# Altium integrated library Analog_Devices_Power_Management_Linear_Regulators.IntLib: 441 symbols (part 14 of 23)
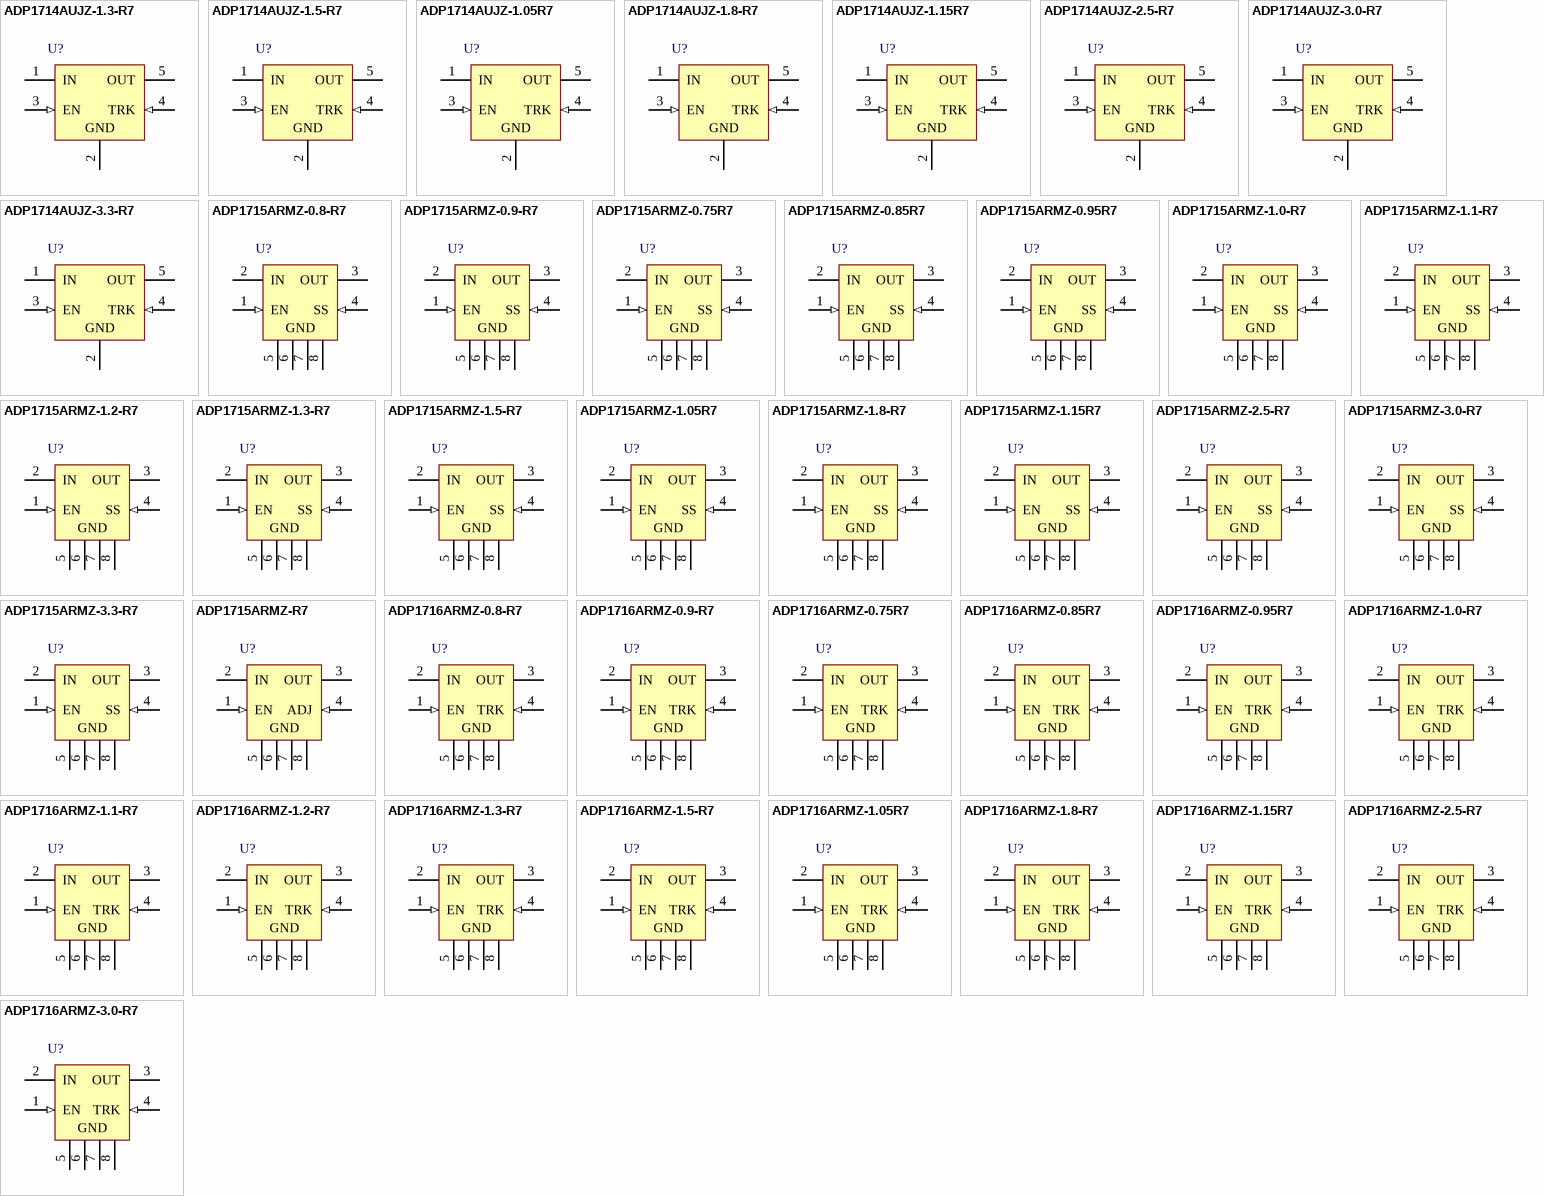
[diagram p24: symbols ADP1714AUJZ-1.3-R7 to ADP1716ARMZ-3.0-R7]

## ADP1716ARMZ-2.5-R7
designator U?
500 mA, Low Dropout, CMOS Linear Regulator, 2.5 to 5.5 V Vin, 2.5 V Vout, Industrial, 8-pin SOP (RM-8), Reel; Manufacturer: Analog Devices; PartNumber: ADP1716ARMZ-2.5-R7; Iout max: 500mA; Preset Vout Values (V): 2.5; Supply Current IGND @ Small Load: 65uA; Vin (max) (V): 5.5; DatasheetVersion: Rev. 0; PackageVersion: Aug-05; PackageReference: RM-8; PackageDescription: 8-Pin Mini Small Outline Package, Body 3 x 3 mm, Pitch 0.65 mm; Supplier 1: Digi-Key; Supplier Part Number 1: ADP1716ARMZ-2.5-R7TR-ND; Supplier 2: Digi-Key; Supplier Part Number 2: ADP1716ARMZ-2.5-R7CT-ND; Supplier 3: Digi-Key; Supplier Part Number 3: ADP1716ARMZ-2.5-R7DKR-ND; Supplier 4: Mouser; Supplier Part Number 4: 584-ADP1716ARMZ2.5R7; Packing: Reel; Vin (min) (V): 2.5; Mounting Technology: Surface Mount; Code_JEDEC: MO-187-AA; ComponentLink1Description: Manufacturer URL; ComponentLink1URL: http://www.analog.com/en/index.html; ComponentLink2Description: Datasheet; ComponentLink2URL: http://www.analog.com/static/imported-files/data_sheets/ADP1715_1716.pdf; ComponentLink3Description: Package Specification; ComponentLink3URL: http://www.analog.com/static/imported-files/packages/PKG_PDF/MSOP%28RM%29/RM_8.pdf; ComponentLink4Description: URL Link1; ComponentLink4URL: Product URL:http://www.analog.com/en/ADP1716/productSearch.html
footprint ADI-RM-8_N (SOP, 8-Leads, Body 3x3mm, Pitch 0.65mm, IPC Medium Density)
footprint ADI-RM-8_L (SOP, 8-Leads, Body 3x3mm, Pitch 0.65mm, IPC High Density)
footprint ADI-RM-8_M (SOP, 8-Leads, Body 3x3mm, Pitch 0.65mm, IPC Low Density)
pins: 1 EN (in) "Enable Input. Drive EN high to turn on the regulator; drive it low to turn off the regulator. For automatic startup, connect EN to IN.", 2 IN (power) "Regulator Input Supply. Bypass IN to GND with a 2.2 uF or greater capacitor.", 3 OUT (power) "Regulated Output Voltage. Bypass OUT to GND with a 2.2 uF or greater capacitor.", 4 TRK (in) "Track. The output will follow the voltage placed on the TRK pin. (See the Theory of Operation section for a more detailed description.)", 5 GND (power) "Ground.", 6 GND (power) "Ground.", 7 GND (power) "Ground.", 8 GND (power) "Ground."

## ADP1716ARMZ-3.0-R7
designator U?
500 mA, Low Dropout, CMOS Linear Regulator, 2.5 to 5.5 V Vin, 3 V Vout, Industrial, 8-pin SOP (RM-8), Reel; Manufacturer: Analog Devices; PartNumber: ADP1716ARMZ-3.0-R7; Iout max: 500mA; Preset Vout Values (V): 3.0; Supply Current IGND @ Small Load: 65uA; Vin (max) (V): 5.5; Vin (min) (V): 2.5; DatasheetVersion: Rev. 0; PackageVersion: Aug-05; PackageReference: RM-8; PackageDescription: 8-Pin Mini Small Outline Package, Body 3 x 3 mm, Pitch 0.65 mm; Supplier 1: Digi-Key; Supplier Part Number 1: ADP1716ARMZ-3.0-R7TR-ND; Supplier 2: Digi-Key; Supplier Part Number 2: ADP1716ARMZ-3.0-R7CT-ND; Supplier 3: Digi-Key; Supplier Part Number 3: ADP1716ARMZ-3.0-R7DKR-ND; Supplier 4: Mouser; Supplier Part Number 4: 584-ADP1716ARMZ3.0R7; Packing: Reel; Mounting Technology: Surface Mount; Code_JEDEC: MO-187-AA; ComponentLink1Description: Manufacturer URL; ComponentLink1URL: http://www.analog.com/en/index.html; ComponentLink2Description: Datasheet; ComponentLink2URL: http://www.analog.com/static/imported-files/data_sheets/ADP1715_1716.pdf; ComponentLink3Description: Package Specification; ComponentLink3URL: http://www.analog.com/static/imported-files/packages/PKG_PDF/MSOP%28RM%29/RM_8.pdf; ComponentLink4Description: URL Link1; ComponentLink4URL: Product URL:http://www.analog.com/en/ADP1716/productSearch.html
footprint ADI-RM-8_N (SOP, 8-Leads, Body 3x3mm, Pitch 0.65mm, IPC Medium Density)
footprint ADI-RM-8_L (SOP, 8-Leads, Body 3x3mm, Pitch 0.65mm, IPC High Density)
footprint ADI-RM-8_M (SOP, 8-Leads, Body 3x3mm, Pitch 0.65mm, IPC Low Density)
pins: 1 EN (in) "Enable Input. Drive EN high to turn on the regulator; drive it low to turn off the regulator. For automatic startup, connect EN to IN.", 2 IN (power) "Regulator Input Supply. Bypass IN to GND with a 2.2 uF or greater capacitor.", 3 OUT (power) "Regulated Output Voltage. Bypass OUT to GND with a 2.2 uF or greater capacitor.", 4 TRK (in) "Track. The output will follow the voltage placed on the TRK pin. (See the Theory of Operation section for a more detailed description.)", 5 GND (power) "Ground.", 6 GND (power) "Ground.", 7 GND (power) "Ground.", 8 GND (power) "Ground."

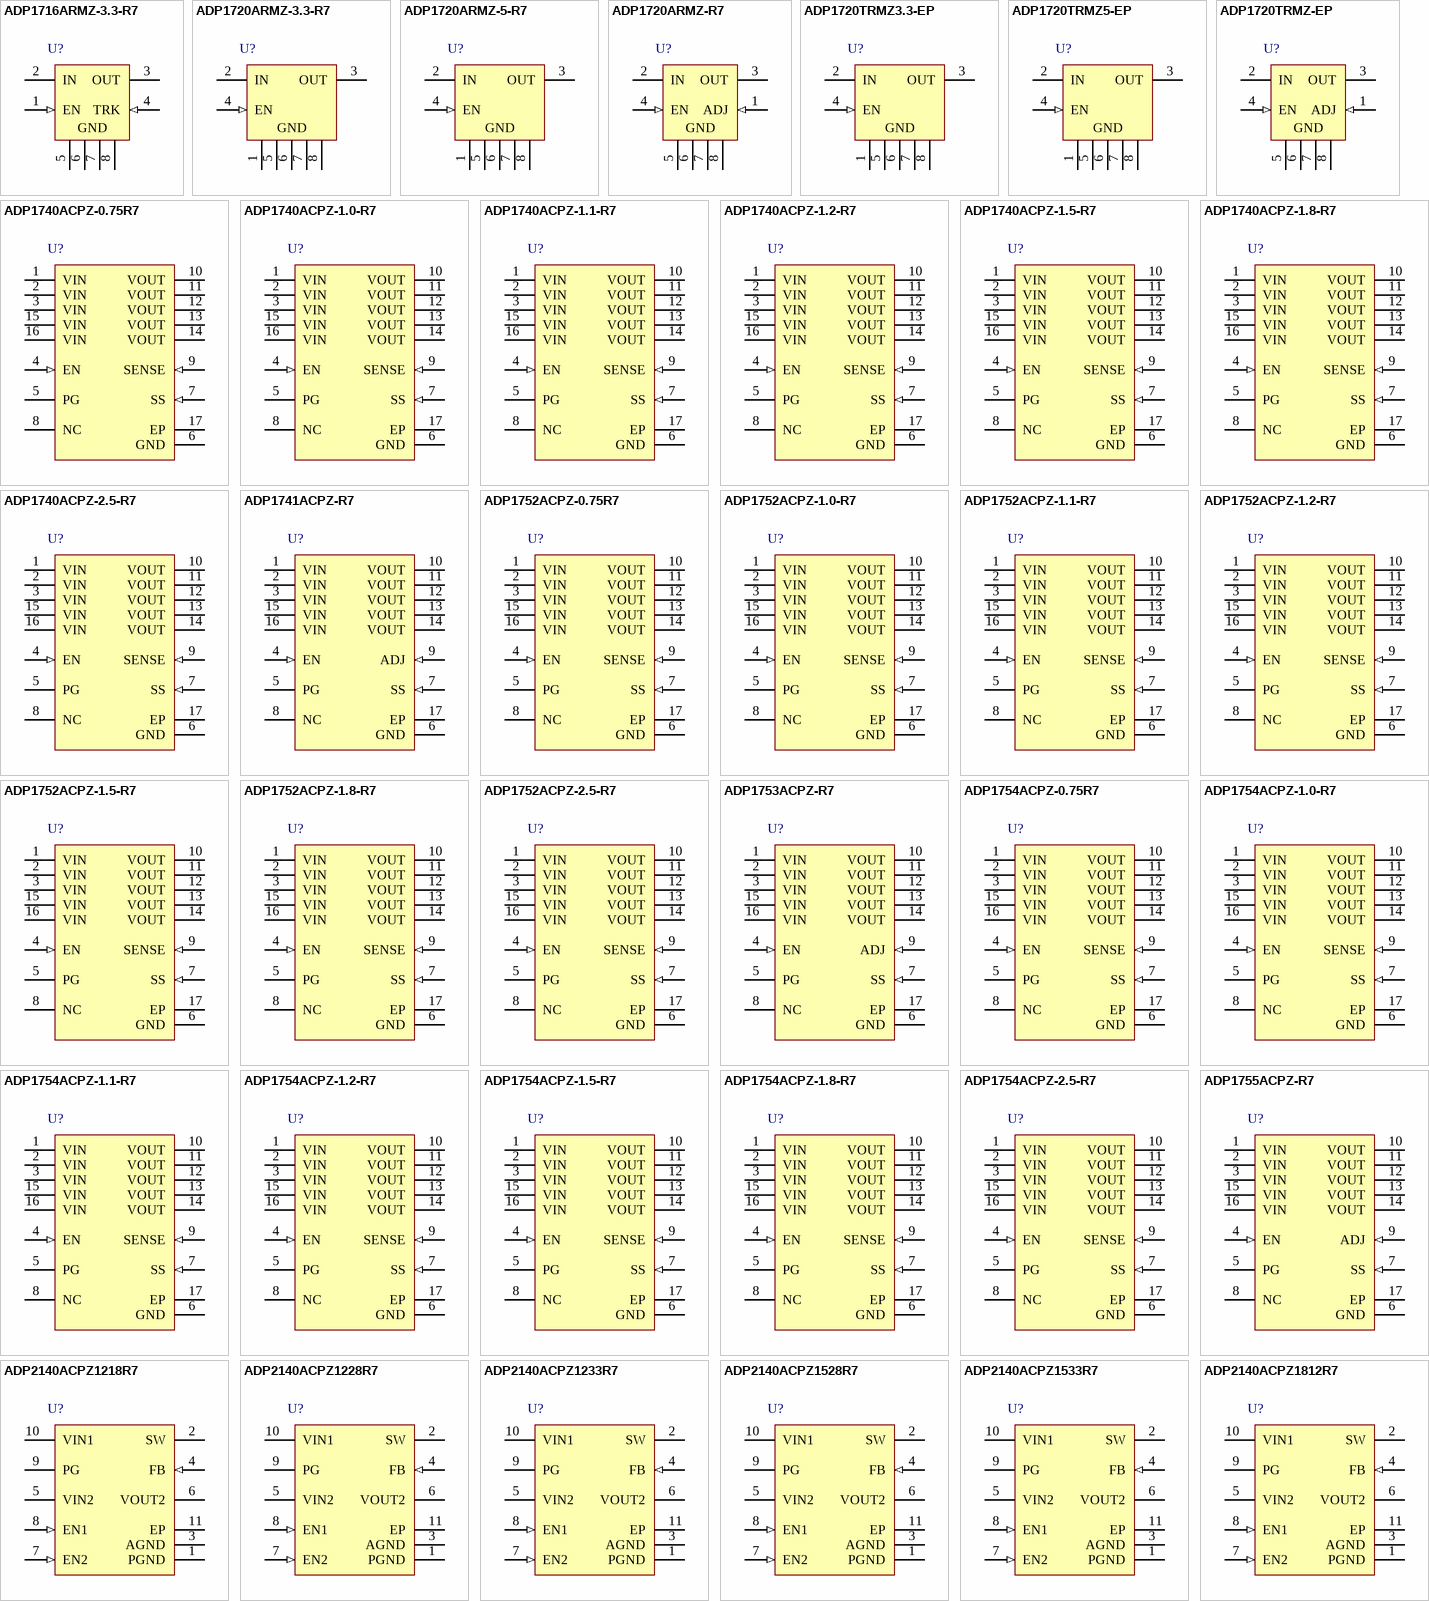
[diagram p7: symbols ADP1716ARMZ-3.3-R7 to ADP2140ACPZ1812R7]

## ADP1716ARMZ-3.3-R7
designator U?
500 mA, Low Dropout, CMOS Linear Regulator, 2.5 to 5.5 V Vin, 3.3 V Vout, Industrial, 8-pin SOP (RM-8), Reel; Manufacturer: Analog Devices; PartNumber: ADP1716ARMZ-3.3-R7; Iout max: 500mA; Preset Vout Values (V): 3.3; Supply Current IGND @ Small Load: 65uA; Vin (max) (V): 5.5; Vin (min) (V): 2.5; DatasheetVersion: Rev. 0; PackageVersion: Aug-05; PackageReference: RM-8; PackageDescription: 8-Pin Mini Small Outline Package, Body 3 x 3 mm, Pitch 0.65 mm; Supplier 1: Digi-Key; Supplier Part Number 1: ADP1716ARMZ-3.3-R7TR-ND; Supplier 2: Digi-Key; Supplier Part Number 2: ADP1716ARMZ-3.3-R7CT-ND; Supplier 3: Digi-Key; Supplier Part Number 3: ADP1716ARMZ-3.3-R7DKR-ND; Supplier 4: Mouser; Supplier Part Number 4: 584-ADP1716ARMZ3.3R7; Packing: Reel; Mounting Technology: Surface Mount; Code_JEDEC: MO-187-AA; ComponentLink1Description: Manufacturer URL; ComponentLink1URL: http://www.analog.com/en/index.html; ComponentLink2Description: Datasheet; ComponentLink2URL: http://www.analog.com/static/imported-files/data_sheets/ADP1715_1716.pdf; ComponentLink3Description: Package Specification; ComponentLink3URL: http://www.analog.com/static/imported-files/packages/PKG_PDF/MSOP%28RM%29/RM_8.pdf; ComponentLink4Description: URL Link1; ComponentLink4URL: Product URL:http://www.analog.com/en/ADP1716/productSearch.html
footprint ADI-RM-8_N (SOP, 8-Leads, Body 3x3mm, Pitch 0.65mm, IPC Medium Density)
footprint ADI-RM-8_L (SOP, 8-Leads, Body 3x3mm, Pitch 0.65mm, IPC High Density)
footprint ADI-RM-8_M (SOP, 8-Leads, Body 3x3mm, Pitch 0.65mm, IPC Low Density)
pins: 1 EN (in) "Enable Input. Drive EN high to turn on the regulator; drive it low to turn off the regulator. For automatic startup, connect EN to IN.", 2 IN (power) "Regulator Input Supply. Bypass IN to GND with a 2.2 uF or greater capacitor.", 3 OUT (power) "Regulated Output Voltage. Bypass OUT to GND with a 2.2 uF or greater capacitor.", 4 TRK (in) "Track. The output will follow the voltage placed on the TRK pin. (See the Theory of Operation section for a more detailed description.)", 5 GND (power) "Ground.", 6 GND (power) "Ground.", 7 GND (power) "Ground.", 8 GND (power) "Ground."

## ADP1720ARMZ-3.3-R7
designator U?
50 mA, High Voltage, Micropower Linear Regulator, 4 to 28 V Vin, 3.3 V Vout, Industrial, 8-pin SOP (RM-8), Reel; Manufacturer: Analog Devices; PartNumber: ADP1720ARMZ-3.3-R7; Iout max: 50mA; Preset Vout Values (V): 3.3; Supply Current IGND @ Small Load: 28uA; Vin (max) (V): 28; Vin (min) (V): 4; DatasheetVersion: Rev. A; PackageVersion: Aug-05; PackageReference: RM-8; PackageDescription: 8-Pin Mini Small Outline Package, Body 3 x 3 mm, Pitch 0.65 mm; Supplier 1: Digi-Key; Supplier Part Number 1: ADP1720ARMZ-3.3-R7TR-ND; Supplier 2: Digi-Key; Supplier Part Number 2: ADP1720ARMZ-3.3-R7CT-ND; Supplier 3: Digi-Key; Supplier Part Number 3: ADP1720ARMZ-3.3-R7DKR-ND; Supplier 4: Newark; Supplier Part Number 4: 41M1921; Supplier 5: Mouser; Supplier Part Number 5: 584-ADP1720ARMZ3.3R7; Packing: Reel; Mounting Technology: Surface Mount; Code_JEDEC: MO-187-AA; ComponentLink1Description: Manufacturer URL; ComponentLink1URL: http://www.analog.com/en/index.html; ComponentLink2Description: Datasheet; ComponentLink2URL: http://www.analog.com/static/imported-files/data_sheets/ADP1720.pdf; ComponentLink3Description: Package Specification; ComponentLink3URL: http://www.analog.com/static/imported-files/packages/PKG_PDF/MSOP%28RM%29/RM_8.pdf; ComponentLink4Description: URL Link1; ComponentLink4URL: Product URL:http://www.analog.com/en/ADP1720/productSearch.html
footprint ADI-RM-8_N (SOP, 8-Leads, Body 3x3mm, Pitch 0.65mm, IPC Medium Density)
footprint ADI-RM-8_L (SOP, 8-Leads, Body 3x3mm, Pitch 0.65mm, IPC High Density)
footprint ADI-RM-8_M (SOP, 8-Leads, Body 3x3mm, Pitch 0.65mm, IPC Low Density)
pins: 1 GND (power) "This pin is internally connected to ground.", 2 IN (power) "Regulator Input Supply. Bypass IN to GND with a 1 uF or greater capacitor.", 3 OUT (power) "Regulated Output Voltage. Bypass OUT to GND with a 1 uF or greater capacitor.", 4 EN (in) "Enable Input. Drive EN high to turn on the regulator; drive it low to turn off the regulator. For automatic startup, connect EN to IN.", 5 GND (power) "Ground.", 6 GND (power) "Ground.", 7 GND (power) "Ground.", 8 GND (power) "Ground."

## ADP1720ARMZ-5-R7
designator U?
50 mA, High Voltage, Micropower Linear Regulator, 4 to 28 V Vin, 5 V Vout, Industrial, 8-pin SOP (RM-8), Reel; Manufacturer: Analog Devices; PartNumber: ADP1720ARMZ-5-R7; Iout max: 50mA; Preset Vout Values (V): 5; Supply Current IGND @ Small Load: 28uA; Vin (max) (V): 28; Vin (min) (V): 4; DatasheetVersion: Rev. A; PackageVersion: Aug-05; PackageReference: RM-8; PackageDescription: 8-Pin Mini Small Outline Package, Body 3 x 3 mm, Pitch 0.65 mm; Supplier 1: Digi-Key; Supplier Part Number 1: ADP1720ARMZ-5-R7TR-ND; Supplier 2: Digi-Key; Supplier Part Number 2: ADP1720ARMZ-5-R7CT-ND; Supplier 3: Digi-Key; Supplier Part Number 3: ADP1720ARMZ-5-R7DKR-ND; Supplier 4: Farnell; Supplier Part Number 4: 1571196; Supplier 5: Newark; Supplier Part Number 5: 41M1922; Supplier 6: Mouser; Supplier Part Number 6: 584-ADP1720ARMZ-5-R7; Packing: Reel; Mounting Technology: Surface Mount; Code_JEDEC: MO-187-AA; ComponentLink1Description: Manufacturer URL; ComponentLink1URL: http://www.analog.com/en/index.html; ComponentLink2Description: Datasheet; ComponentLink2URL: http://www.analog.com/static/imported-files/data_sheets/ADP1720.pdf; ComponentLink3Description: Package Specification; ComponentLink3URL: http://www.analog.com/static/imported-files/packages/PKG_PDF/MSOP%28RM%29/RM_8.pdf; ComponentLink4Description: URL Link1; ComponentLink4URL: Product URL:http://www.analog.com/en/ADP1720/productSearch.html
footprint ADI-RM-8_N (SOP, 8-Leads, Body 3x3mm, Pitch 0.65mm, IPC Medium Density)
footprint ADI-RM-8_L (SOP, 8-Leads, Body 3x3mm, Pitch 0.65mm, IPC High Density)
footprint ADI-RM-8_M (SOP, 8-Leads, Body 3x3mm, Pitch 0.65mm, IPC Low Density)
pins: 1 GND (power) "This pin is internally connected to ground.", 2 IN (power) "Regulator Input Supply. Bypass IN to GND with a 1 uF or greater capacitor.", 3 OUT (power) "Regulated Output Voltage. Bypass OUT to GND with a 1 uF or greater capacitor.", 4 EN (in) "Enable Input. Drive EN high to turn on the regulator; drive it low to turn off the regulator. For automatic startup, connect EN to IN.", 5 GND (power) "Ground.", 6 GND (power) "Ground.", 7 GND (power) "Ground.", 8 GND (power) "Ground."

## ADP1720ARMZ-R7
designator U?
50 mA, High Voltage, Micropower Linear Regulator, 4 to 28 V Vin, 1.225 to 5 V Vout, Industrial, 8-pin SOP (RM-8), Reel; Manufacturer: Analog Devices; PartNumber: ADP1720ARMZ-R7; Iout max: 50mA; Supply Current IGND @ Small Load: 28uA; Vin (max) (V): 28; Vin (min) (V): 4; Vout Adjustable Range: 1.225V to 5V; DatasheetVersion: Rev. A; PackageVersion: Aug-05; PackageReference: RM-8; PackageDescription: 8-Pin Mini Small Outline Package, Body 3 x 3 mm, Pitch 0.65 mm; Supplier 1: Digi-Key; Supplier Part Number 1: ADP1720ARMZ-R7TR-ND; Supplier 2: Digi-Key; Supplier Part Number 2: ADP1720ARMZ-R7CT-ND; Supplier 3: Digi-Key; Supplier Part Number 3: ADP1720ARMZ-R7DKR-ND; Supplier 4: Farnell; Supplier Part Number 4: 2094213; Supplier 5: Newark; Supplier Part Number 5: 91T4776; Supplier 6: Newark; Supplier Part Number 6: 41M1920; Supplier 7: Mouser; Supplier Part Number 7: 584-ADP1720ARMZ-R7; Packing: Reel; Mounting Technology: Surface Mount; Code_JEDEC: MO-187-AA; ComponentLink1Description: Manufacturer URL; ComponentLink1URL: http://www.analog.com/en/index.html; ComponentLink2Description: Datasheet; ComponentLink2URL: http://www.analog.com/static/imported-files/data_sheets/ADP1720.pdf; ComponentLink3Description: Package Specification; ComponentLink3URL: http://www.analog.com/static/imported-files/packages/PKG_PDF/MSOP%28RM%29/RM_8.pdf; ComponentLink4Description: URL Link1; ComponentLink4URL: Product URL:http://www.analog.com/en/ADP1720/productSearch.html
footprint ADI-RM-8_N (SOP, 8-Leads, Body 3x3mm, Pitch 0.65mm, IPC Medium Density)
footprint ADI-RM-8_L (SOP, 8-Leads, Body 3x3mm, Pitch 0.65mm, IPC High Density)
footprint ADI-RM-8_M (SOP, 8-Leads, Body 3x3mm, Pitch 0.65mm, IPC Low Density)
pins: 1 ADJ (in) "Adjust. A resistor divider from OUT to ADJ sets the output voltage.", 2 IN (power) "Regulator Input Supply. Bypass IN to GND with a 1 uF or greater capacitor.", 3 OUT (power) "Regulated Output Voltage. Bypass OUT to GND with a 1 uF or greater capacitor.", 4 EN (in) "Enable Input. Drive EN high to turn on the regulator; drive it low to turn off the regulator. For automatic startup, connect EN to IN.", 5 GND (power) "Ground.", 6 GND (power) "Ground.", 7 GND (power) "Ground.", 8 GND (power) "Ground."

## ADP1720TRMZ3.3-EP
designator U?
50 mA, High Voltage, Micropower Linear Regulator, 4 to 28 V Vin, 3.3 V Vout, Military, 8-pin SOP (RM-8), Tube; Manufacturer: Analog Devices; PartNumber: ADP1720TRMZ3.3-EP; Iout max: 50mA; Preset Vout Values (V): 3.3; Supply Current IGND @ Small Load: 28uA; Vin (max) (V): 28; Vin (min) (V): 4; DatasheetVersion: Rev. A; PackageVersion: Aug-05; PackageReference: RM-8; PackageDescription: 8-Pin Mini Small Outline Package, Body 3 x 3 mm, Pitch 0.65 mm; Supplier 1: Digi-Key; Supplier Part Number 1: ADP1720TRMZ3.3-EP-ND; Supplier 2: Mouser; Supplier Part Number 2: 584-ADP1720TRMZ3.3EP; Packing: Tube; Mounting Technology: Surface Mount; Code_JEDEC: MO-187-AA; ComponentLink1Description: Manufacturer URL; ComponentLink1URL: http://www.analog.com/en/index.html; ComponentLink2Description: Datasheet; ComponentLink2URL: http://www.analog.com/static/imported-files/data_sheets/ADP1720-EP.pdf; ComponentLink3Description: Package Specification; ComponentLink3URL: http://www.analog.com/static/imported-files/packages/PKG_PDF/MSOP%28RM%29/RM_8.pdf; ComponentLink4Description: URL Link1; ComponentLink4URL: Product URL:http://www.analog.com/en/ADP1720/productSearch.html
footprint ADI-RM-8_N (SOP, 8-Leads, Body 3x3mm, Pitch 0.65mm, IPC Medium Density)
footprint ADI-RM-8_L (SOP, 8-Leads, Body 3x3mm, Pitch 0.65mm, IPC High Density)
footprint ADI-RM-8_M (SOP, 8-Leads, Body 3x3mm, Pitch 0.65mm, IPC Low Density)
pins: 1 GND (power) "This pin is internally connected to ground.", 2 IN (power) "Regulator Input Supply. Bypass IN to GND with a 1 uF or greater capacitor.", 3 OUT (power) "Regulated Output Voltage. Bypass OUT to GND with a 1 uF or greater capacitor.", 4 EN (in) "Enable Input. Drive EN high to turn on the regulator; drive it low to turn off the regulator. For automatic startup, connect EN to IN.", 5 GND (power) "Ground.", 6 GND (power) "Ground.", 7 GND (power) "Ground.", 8 GND (power) "Ground."

## ADP1720TRMZ5-EP
designator U?
50 mA, High Voltage, Micropower Linear Regulator, 4 to 28 V Vin, 5 V Vout, Military, 8-pin SOP (RM-8), Tube; Manufacturer: Analog Devices; PartNumber: ADP1720TRMZ5-EP; Iout max: 50mA; Preset Vout Values (V): 5; Supply Current IGND @ Small Load: 28uA; Vin (max) (V): 28; Vin (min) (V): 4; DatasheetVersion: Rev. A; PackageVersion: Aug-05; PackageReference: RM-8; PackageDescription: 8-Pin Mini Small Outline Package, Body 3 x 3 mm, Pitch 0.65 mm; Supplier 1: Digi-Key; Supplier Part Number 1: ADP1720TRMZ5-EP-ND; Supplier 2: Mouser; Supplier Part Number 2: 584-ADP1720TRMZ5-EP; Packing: Tube; Mounting Technology: Surface Mount; Code_JEDEC: MO-187-AA; ComponentLink1Description: Manufacturer URL; ComponentLink1URL: http://www.analog.com/en/index.html; ComponentLink2Description: Datasheet; ComponentLink2URL: http://www.analog.com/static/imported-files/data_sheets/ADP1720-EP.pdf; ComponentLink3Description: Package Specification; ComponentLink3URL: http://www.analog.com/static/imported-files/packages/PKG_PDF/MSOP%28RM%29/RM_8.pdf; ComponentLink4Description: URL Link1; ComponentLink4URL: Product URL:http://www.analog.com/en/ADP1720/productSearch.html
footprint ADI-RM-8_N (SOP, 8-Leads, Body 3x3mm, Pitch 0.65mm, IPC Medium Density)
footprint ADI-RM-8_L (SOP, 8-Leads, Body 3x3mm, Pitch 0.65mm, IPC High Density)
footprint ADI-RM-8_M (SOP, 8-Leads, Body 3x3mm, Pitch 0.65mm, IPC Low Density)
pins: 1 GND (power) "This pin is internally connected to ground.", 2 IN (power) "Regulator Input Supply. Bypass IN to GND with a 1 uF or greater capacitor.", 3 OUT (power) "Regulated Output Voltage. Bypass OUT to GND with a 1 uF or greater capacitor.", 4 EN (in) "Enable Input. Drive EN high to turn on the regulator; drive it low to turn off the regulator. For automatic startup, connect EN to IN.", 5 GND (power) "Ground.", 6 GND (power) "Ground.", 7 GND (power) "Ground.", 8 GND (power) "Ground."

## ADP1720TRMZ-EP
designator U?
50 mA, High Voltage, Micropower Linear Regulator, 4 to 28 V Vin, 1.225 to 5 V Vout, Military, 8-pin SOP (RM-8), Tube; Manufacturer: Analog Devices; PartNumber: ADP1720TRMZ-EP; Iout max: 50mA; Supply Current IGND @ Small Load: 28uA; Vin (max) (V): 28; Vin (min) (V): 4; Vout Adjustable Range: 1.225V to 5V; DatasheetVersion: Rev. A; PackageVersion: Aug-05; PackageReference: RM-8; PackageDescription: 8-Pin Mini Small Outline Package, Body 3 x 3 mm, Pitch 0.65 mm; Supplier 1: Digi-Key; Supplier Part Number 1: ADP1720TRMZ-EP-ND; Supplier 2: Mouser; Supplier Part Number 2: 584-ADP1720TRMZ-EP; Packing: Tube; Mounting Technology: Surface Mount; Code_JEDEC: MO-187-AA; ComponentLink1Description: Manufacturer URL; ComponentLink1URL: http://www.analog.com/en/index.html; ComponentLink2Description: Datasheet; ComponentLink2URL: http://www.analog.com/static/imported-files/data_sheets/ADP1720-EP.pdf; ComponentLink3Description: Package Specification; ComponentLink3URL: http://www.analog.com/static/imported-files/packages/PKG_PDF/MSOP%28RM%29/RM_8.pdf; ComponentLink4Description: URL Link1; ComponentLink4URL: Product URL:http://www.analog.com/en/ADP1720/productSearch.html
footprint ADI-RM-8_N (SOP, 8-Leads, Body 3x3mm, Pitch 0.65mm, IPC Medium Density)
footprint ADI-RM-8_L (SOP, 8-Leads, Body 3x3mm, Pitch 0.65mm, IPC High Density)
footprint ADI-RM-8_M (SOP, 8-Leads, Body 3x3mm, Pitch 0.65mm, IPC Low Density)
pins: 1 ADJ (in) "Adjust. A resistor divider from OUT to ADJ sets the output voltage.", 2 IN (power) "Regulator Input Supply. Bypass IN to GND with a 1 uF or greater capacitor.", 3 OUT (power) "Regulated Output Voltage. Bypass OUT to GND with a 1 uF or greater capacitor.", 4 EN (in) "Enable Input. Drive EN high to turn on the regulator; drive it low to turn off the regulator. For automatic startup, connect EN to IN.", 5 GND (power) "Ground.", 6 GND (power) "Ground.", 7 GND (power) "Ground.", 8 GND (power) "Ground."

## ADP1740ACPZ-0.75R7
designator U?
2 A, Low VIN, Low Dropout Linear Regulator, 1.6 to 3.6 V Vin, 0.75 V Vout, Industrial, 16-pin QFN (CP-16-3), Reel; Manufacturer: Analog Devices; PartNumber: ADP1740ACPZ-0.75R7; Iout max: 2A; Preset Vout Values (V): 0.75; Supply Current IGND @ Small Load: 90uA; Vin (max) (V): 3.6; Vin (min) (V): 1.6; DatasheetVersion: Rev. D; PackageReference: CP-16-3; PackageDescription: 16-Pin Lead Frame Chip Scale Package, Body 3 x 3 mm, Pitch 0.5 mm; Supplier 1: Digi-Key; Supplier Part Number 1: ADP1740ACPZ-0.75R7TR-ND; Supplier 2: Digi-Key; Supplier Part Number 2: ADP1740ACPZ-0.75R7CT-ND; Supplier 3: Digi-Key; Supplier Part Number 3: ADP1740ACPZ-0.75R7DKR-ND; Supplier 4: Mouser; Supplier Part Number 4: 584-AP1740ACPZ0.75R7; Packing: Reel; Mounting Technology: Surface Mount; Code_JEDEC: MO-220-VEED-2; ComponentLink1Description: Manufacturer URL; ComponentLink1URL: http://www.analog.com/en/index.html; ComponentLink2Description: Datasheet; ComponentLink2URL: http://www.analog.com/static/imported-files/data_sheets/ADP1740_1741.pdf; ComponentLink3Description: Package Specification; ComponentLink3URL: http://www.analog.com/static/imported-files/packages/PKG_PDF/LFCSP(CP)/CP_16_3.pdf; ComponentLink4Description: URL Link1; ComponentLink4URL: Product URL:http://www.analog.com/en/ADP1740/productSearch.html
footprint ADI-CP-16-3_N (QFN, 16-Leads, Body 3x3mm, Pitch 0.5mm, Thermal Pad 1.5x1.5mm, IPC Medium Density)
footprint ADI-CP-16-3_L (QFN, 16-Leads, Body 3x3mm, Pitch 0.5mm, Thermal Pad 1.5x1.5mm, IPC High Density)
footprint ADI-CP-16-3_M (QFN, 16-Leads, Body 3x3mm, Pitch 0.5mm, Thermal Pad 1.5x1.5mm, IPC Low Density)
pins: 1 VIN (power) "Regulator Input Supply. Bypass VIN to GND with a 4.7 uF or greater capacitor. Note that all five VIN pins must be connected to the source supply.", 2 VIN (power) "Regulator Input Supply. Bypass VIN to GND with a 4.7 uF or greater capacitor. Note that all five VIN pins must be connected to the source supply.", 3 VIN (power) "Regulator Input Supply. Bypass VIN to GND with a 4.7 uF or greater capacitor. Note that all five VIN pins must be connected to the source supply.", 4 EN (in) "Enable Input. Drive EN high to turn on the regulator; drive it low to turn off the regulator. For automatic startup, connect EN to VIN", 5 PG (oc) "Power-Good Output. This open-drain output requires an external pull-up resistor to VIN. If the part is in shutdown mode, current-limit mode, or thermal shutdown, or if it falls below 90% of the nominal output voltage, the PG (See Datasheet)", 6 GND (power) "Ground.", 7 SS (in) "Soft Start Pin. A capacitor connected to this pin determines the soft start time.", 8 NC "Not Connected. No internal connection.", 9 SENSE (in) "Sense Input. This pin measures the actual output voltage at the load and feeds it to the error amplifier. Connect the SENSE pin as close to the load as possible to minimize the effect of IR drop between the regulator output (See Datasheet)", 10 VOUT (power) "Regulated Output Voltage. Bypass VOUT to GND with a 4.7 uF or greater capacitor. Note that all five VOUT pins must be connected to the load", 11 VOUT (power) "Regulated Output Voltage. Bypass VOUT to GND with a 4.7 uF or greater capacitor. Note that all five VOUT pins must be connected to the load", 12 VOUT (power) "Regulated Output Voltage. Bypass VOUT to GND with a 4.7 uF or greater capacitor. Note that all five VOUT pins must be connected to the load", 13 VOUT (power) "Regulated Output Voltage. Bypass VOUT to GND with a 4.7 uF or greater capacitor. Note that all five VOUT pins must be connected to the load", 14 VOUT (power) "Regulated Output Voltage. Bypass VOUT to GND with a 4.7 uF or greater capacitor. Note that all five VOUT pins must be connected to the load", 15 VIN (power) "Regulator Input Supply. Bypass VIN to GND with a 4.7 uF or greater capacitor. Note that all five VIN pins must be connected to the source supply.", 16 VIN (power) "Regulator Input Supply. Bypass VIN to GND with a 4.7 uF or greater capacitor. Note that all five VIN pins must be connected to the source supply.", 17 EP (power) "The exposed pad on the bottom of the LFCSP enhances thermal performance and is electrically connected to GND inside the package. It is recommended that the exposed pad be connected to the ground plane on the board."

## ADP1740ACPZ-1.0-R7
designator U?
2 A, Low VIN, Low Dropout Linear Regulator, 1.6 to 3.6 V Vin, 1 V Vout, Industrial, 16-pin QFN (CP-16-3), Reel; Manufacturer: Analog Devices; PartNumber: ADP1740ACPZ-1.0-R7; Iout max: 2A; Preset Vout Values (V): 1.0; Supply Current IGND @ Small Load: 90uA; Vin (max) (V): 3.6; Vin (min) (V): 1.6; DatasheetVersion: Rev. D; PackageReference: CP-16-3; PackageDescription: 16-Pin Lead Frame Chip Scale Package, Body 3 x 3 mm, Pitch 0.5 mm; Supplier 1: Digi-Key; Supplier Part Number 1: ADP1740ACPZ-1.0-R7TR-ND; Supplier 2: Digi-Key; Supplier Part Number 2: ADP1740ACPZ-1.0-R7CT-ND; Supplier 3: Digi-Key; Supplier Part Number 3: ADP1740ACPZ-1.0-R7DKR-ND; Supplier 4: Newark; Supplier Part Number 4: 34P3044; Supplier 5: Mouser; Supplier Part Number 5: 584-ADP1740ACPZ1.0R7; Packing: Reel; Mounting Technology: Surface Mount; Code_JEDEC: MO-220-VEED-2; ComponentLink1Description: Manufacturer URL; ComponentLink1URL: http://www.analog.com/en/index.html; ComponentLink2Description: Datasheet; ComponentLink2URL: http://www.analog.com/static/imported-files/data_sheets/ADP1740_1741.pdf; ComponentLink3Description: Package Specification; ComponentLink3URL: http://www.analog.com/static/imported-files/packages/PKG_PDF/LFCSP(CP)/CP_16_3.pdf; ComponentLink4Description: URL Link1; ComponentLink4URL: Product URL:http://www.analog.com/en/ADP1740/productSearch.html
footprint ADI-CP-16-3_N (QFN, 16-Leads, Body 3x3mm, Pitch 0.5mm, Thermal Pad 1.5x1.5mm, IPC Medium Density)
footprint ADI-CP-16-3_L (QFN, 16-Leads, Body 3x3mm, Pitch 0.5mm, Thermal Pad 1.5x1.5mm, IPC High Density)
footprint ADI-CP-16-3_M (QFN, 16-Leads, Body 3x3mm, Pitch 0.5mm, Thermal Pad 1.5x1.5mm, IPC Low Density)
pins: 1 VIN (power) "Regulator Input Supply. Bypass VIN to GND with a 4.7 uF or greater capacitor. Note that all five VIN pins must be connected to the source supply.", 2 VIN (power) "Regulator Input Supply. Bypass VIN to GND with a 4.7 uF or greater capacitor. Note that all five VIN pins must be connected to the source supply.", 3 VIN (power) "Regulator Input Supply. Bypass VIN to GND with a 4.7 uF or greater capacitor. Note that all five VIN pins must be connected to the source supply.", 4 EN (in) "Enable Input. Drive EN high to turn on the regulator; drive it low to turn off the regulator. For automatic startup, connect EN to VIN", 5 PG (oc) "Power-Good Output. This open-drain output requires an external pull-up resistor to VIN. If the part is in shutdown mode, current-limit mode, or thermal shutdown, or if it falls below 90% of the nominal output voltage, the PG (See Datasheet)", 6 GND (power) "Ground.", 7 SS (in) "Soft Start Pin. A capacitor connected to this pin determines the soft start time.", 8 NC "Not Connected. No internal connection.", 9 SENSE (in) "Sense Input. This pin measures the actual output voltage at the load and feeds it to the error amplifier. Connect the SENSE pin as close to the load as possible to minimize the effect of IR drop between the regulator output (See Datasheet)", 10 VOUT (power) "Regulated Output Voltage. Bypass VOUT to GND with a 4.7 uF or greater capacitor. Note that all five VOUT pins must be connected to the load", 11 VOUT (power) "Regulated Output Voltage. Bypass VOUT to GND with a 4.7 uF or greater capacitor. Note that all five VOUT pins must be connected to the load", 12 VOUT (power) "Regulated Output Voltage. Bypass VOUT to GND with a 4.7 uF or greater capacitor. Note that all five VOUT pins must be connected to the load", 13 VOUT (power) "Regulated Output Voltage. Bypass VOUT to GND with a 4.7 uF or greater capacitor. Note that all five VOUT pins must be connected to the load", 14 VOUT (power) "Regulated Output Voltage. Bypass VOUT to GND with a 4.7 uF or greater capacitor. Note that all five VOUT pins must be connected to the load", 15 VIN (power) "Regulator Input Supply. Bypass VIN to GND with a 4.7 uF or greater capacitor. Note that all five VIN pins must be connected to the source supply.", 16 VIN (power) "Regulator Input Supply. Bypass VIN to GND with a 4.7 uF or greater capacitor. Note that all five VIN pins must be connected to the source supply.", 17 EP (power) "The exposed pad on the bottom of the LFCSP enhances thermal performance and is electrically connected to GND inside the package. It is recommended that the exposed pad be connected to the ground plane on the board."

## ADP1740ACPZ-1.1-R7
designator U?
2 A, Low VIN, Low Dropout Linear Regulator, 1.6 to 3.6 V Vin, 1.1 V Vout, Industrial, 16-pin QFN (CP-16-3), Reel; Manufacturer: Analog Devices; PartNumber: ADP1740ACPZ-1.1-R7; Iout max: 2A; Preset Vout Values (V): 1.1; Supply Current IGND @ Small Load: 90uA; Vin (max) (V): 3.6; Vin (min) (V): 1.6; DatasheetVersion: Rev. D; PackageReference: CP-16-3; PackageDescription: 16-Pin Lead Frame Chip Scale Package, Body 3 x 3 mm, Pitch 0.5 mm; Supplier 1: Digi-Key; Supplier Part Number 1: ADP1740ACPZ-1.1-R7TR-ND; Supplier 2: Digi-Key; Supplier Part Number 2: ADP1740ACPZ-1.1-R7CT-ND; Supplier 3: Digi-Key; Supplier Part Number 3: ADP1740ACPZ-1.1-R7DKR-ND; Supplier 4: Mouser; Supplier Part Number 4: 584-ADP1740ACPZ1.1R7; Packing: Reel; Mounting Technology: Surface Mount; Code_JEDEC: MO-220-VEED-2; ComponentLink1Description: Manufacturer URL; ComponentLink1URL: http://www.analog.com/en/index.html; ComponentLink2Description: Datasheet; ComponentLink2URL: http://www.analog.com/static/imported-files/data_sheets/ADP1740_1741.pdf; ComponentLink3Description: Package Specification; ComponentLink3URL: http://www.analog.com/static/imported-files/packages/PKG_PDF/LFCSP(CP)/CP_16_3.pdf; ComponentLink4Description: URL Link1; ComponentLink4URL: Product URL:http://www.analog.com/en/ADP1740/productSearch.html
footprint ADI-CP-16-3_N (QFN, 16-Leads, Body 3x3mm, Pitch 0.5mm, Thermal Pad 1.5x1.5mm, IPC Medium Density)
footprint ADI-CP-16-3_L (QFN, 16-Leads, Body 3x3mm, Pitch 0.5mm, Thermal Pad 1.5x1.5mm, IPC High Density)
footprint ADI-CP-16-3_M (QFN, 16-Leads, Body 3x3mm, Pitch 0.5mm, Thermal Pad 1.5x1.5mm, IPC Low Density)
pins: 1 VIN (power) "Regulator Input Supply. Bypass VIN to GND with a 4.7 uF or greater capacitor. Note that all five VIN pins must be connected to the source supply.", 2 VIN (power) "Regulator Input Supply. Bypass VIN to GND with a 4.7 uF or greater capacitor. Note that all five VIN pins must be connected to the source supply.", 3 VIN (power) "Regulator Input Supply. Bypass VIN to GND with a 4.7 uF or greater capacitor. Note that all five VIN pins must be connected to the source supply.", 4 EN (in) "Enable Input. Drive EN high to turn on the regulator; drive it low to turn off the regulator. For automatic startup, connect EN to VIN", 5 PG (oc) "Power-Good Output. This open-drain output requires an external pull-up resistor to VIN. If the part is in shutdown mode, current-limit mode, or thermal shutdown, or if it falls below 90% of the nominal output voltage, the PG (See Datasheet)", 6 GND (power) "Ground.", 7 SS (in) "Soft Start Pin. A capacitor connected to this pin determines the soft start time.", 8 NC "Not Connected. No internal connection.", 9 SENSE (in) "Sense Input. This pin measures the actual output voltage at the load and feeds it to the error amplifier. Connect the SENSE pin as close to the load as possible to minimize the effect of IR drop between the regulator output (See Datasheet)", 10 VOUT (power) "Regulated Output Voltage. Bypass VOUT to GND with a 4.7 uF or greater capacitor. Note that all five VOUT pins must be connected to the load", 11 VOUT (power) "Regulated Output Voltage. Bypass VOUT to GND with a 4.7 uF or greater capacitor. Note that all five VOUT pins must be connected to the load", 12 VOUT (power) "Regulated Output Voltage. Bypass VOUT to GND with a 4.7 uF or greater capacitor. Note that all five VOUT pins must be connected to the load", 13 VOUT (power) "Regulated Output Voltage. Bypass VOUT to GND with a 4.7 uF or greater capacitor. Note that all five VOUT pins must be connected to the load", 14 VOUT (power) "Regulated Output Voltage. Bypass VOUT to GND with a 4.7 uF or greater capacitor. Note that all five VOUT pins must be connected to the load", 15 VIN (power) "Regulator Input Supply. Bypass VIN to GND with a 4.7 uF or greater capacitor. Note that all five VIN pins must be connected to the source supply.", 16 VIN (power) "Regulator Input Supply. Bypass VIN to GND with a 4.7 uF or greater capacitor. Note that all five VIN pins must be connected to the source supply.", 17 EP (power) "The exposed pad on the bottom of the LFCSP enhances thermal performance and is electrically connected to GND inside the package. It is recommended that the exposed pad be connected to the ground plane on the board."

## ADP1740ACPZ-1.2-R7
designator U?
2 A, Low VIN, Low Dropout Linear Regulator, 1.6 to 3.6 V Vin, 1.2 V Vout, Industrial, 16-pin QFN (CP-16-3), Reel; Manufacturer: Analog Devices; PartNumber: ADP1740ACPZ-1.2-R7; Iout max: 2A; Preset Vout Values (V): 1.2; Supply Current IGND @ Small Load: 90uA; Vin (max) (V): 3.6; Vin (min) (V): 1.6; DatasheetVersion: Rev. D; PackageReference: CP-16-3; PackageDescription: 16-Pin Lead Frame Chip Scale Package, Body 3 x 3 mm, Pitch 0.5 mm; Supplier 1: Digi-Key; Supplier Part Number 1: ADP1740ACPZ-1.2-R7TR-ND; Supplier 2: Digi-Key; Supplier Part Number 2: ADP1740ACPZ-1.2-R7CT-ND; Supplier 3: Digi-Key; Supplier Part Number 3: ADP1740ACPZ-1.2-R7DKR-ND; Supplier 4: Farnell; Supplier Part Number 4: 2312886; Supplier 5: Newark; Supplier Part Number 5: 34P3046; Supplier 6: Newark; Supplier Part Number 6: 67W2699; Supplier 7: Mouser; Supplier Part Number 7: 584-ADP1740ACPZ1.2R7; Packing: Reel; Mounting Technology: Surface Mount; Code_JEDEC: MO-220-VEED-2; ComponentLink1Description: Manufacturer URL; ComponentLink1URL: http://www.analog.com/en/index.html; ComponentLink2Description: Datasheet; ComponentLink2URL: http://www.analog.com/static/imported-files/data_sheets/ADP1740_1741.pdf; ComponentLink3Description: Package Specification; ComponentLink3URL: http://www.analog.com/static/imported-files/packages/PKG_PDF/LFCSP(CP)/CP_16_3.pdf; ComponentLink4Description: URL Link1; ComponentLink4URL: Product URL:http://www.analog.com/en/ADP1740/productSearch.html
footprint ADI-CP-16-3_N (QFN, 16-Leads, Body 3x3mm, Pitch 0.5mm, Thermal Pad 1.5x1.5mm, IPC Medium Density)
footprint ADI-CP-16-3_L (QFN, 16-Leads, Body 3x3mm, Pitch 0.5mm, Thermal Pad 1.5x1.5mm, IPC High Density)
footprint ADI-CP-16-3_M (QFN, 16-Leads, Body 3x3mm, Pitch 0.5mm, Thermal Pad 1.5x1.5mm, IPC Low Density)
pins: 1 VIN (power) "Regulator Input Supply. Bypass VIN to GND with a 4.7 uF or greater capacitor. Note that all five VIN pins must be connected to the source supply.", 2 VIN (power) "Regulator Input Supply. Bypass VIN to GND with a 4.7 uF or greater capacitor. Note that all five VIN pins must be connected to the source supply.", 3 VIN (power) "Regulator Input Supply. Bypass VIN to GND with a 4.7 uF or greater capacitor. Note that all five VIN pins must be connected to the source supply.", 4 EN (in) "Enable Input. Drive EN high to turn on the regulator; drive it low to turn off the regulator. For automatic startup, connect EN to VIN", 5 PG (oc) "Power-Good Output. This open-drain output requires an external pull-up resistor to VIN. If the part is in shutdown mode, current-limit mode, or thermal shutdown, or if it falls below 90% of the nominal output voltage, the PG (See Datasheet)", 6 GND (power) "Ground.", 7 SS (in) "Soft Start Pin. A capacitor connected to this pin determines the soft start time.", 8 NC "Not Connected. No internal connection.", 9 SENSE (in) "Sense Input. This pin measures the actual output voltage at the load and feeds it to the error amplifier. Connect the SENSE pin as close to the load as possible to minimize the effect of IR drop between the regulator output (See Datasheet)", 10 VOUT (power) "Regulated Output Voltage. Bypass VOUT to GND with a 4.7 uF or greater capacitor. Note that all five VOUT pins must be connected to the load", 11 VOUT (power) "Regulated Output Voltage. Bypass VOUT to GND with a 4.7 uF or greater capacitor. Note that all five VOUT pins must be connected to the load", 12 VOUT (power) "Regulated Output Voltage. Bypass VOUT to GND with a 4.7 uF or greater capacitor. Note that all five VOUT pins must be connected to the load", 13 VOUT (power) "Regulated Output Voltage. Bypass VOUT to GND with a 4.7 uF or greater capacitor. Note that all five VOUT pins must be connected to the load", 14 VOUT (power) "Regulated Output Voltage. Bypass VOUT to GND with a 4.7 uF or greater capacitor. Note that all five VOUT pins must be connected to the load", 15 VIN (power) "Regulator Input Supply. Bypass VIN to GND with a 4.7 uF or greater capacitor. Note that all five VIN pins must be connected to the source supply.", 16 VIN (power) "Regulator Input Supply. Bypass VIN to GND with a 4.7 uF or greater capacitor. Note that all five VIN pins must be connected to the source supply.", 17 EP (power) "The exposed pad on the bottom of the LFCSP enhances thermal performance and is electrically connected to GND inside the package. It is recommended that the exposed pad be connected to the ground plane on the board."

## ADP1740ACPZ-1.5-R7
designator U?
2 A, Low VIN, Low Dropout Linear Regulator, 1.6 to 3.6 V Vin, 1.5 V Vout, Industrial, 16-pin QFN (CP-16-3), Reel; Manufacturer: Analog Devices; PartNumber: ADP1740ACPZ-1.5-R7; Iout max: 2A; Preset Vout Values (V): 1.5; Supply Current IGND @ Small Load: 90uA; Vin (max) (V): 3.6; Vin (min) (V): 1.6; DatasheetVersion: Rev. D; PackageReference: CP-16-3; PackageDescription: 16-Pin Lead Frame Chip Scale Package, Body 3 x 3 mm, Pitch 0.5 mm; Supplier 1: Digi-Key; Supplier Part Number 1: ADP1740ACPZ-1.5-R7TR-ND; Supplier 2: Digi-Key; Supplier Part Number 2: ADP1740ACPZ-1.5-R7CT-ND; Supplier 3: Digi-Key; Supplier Part Number 3: ADP1740ACPZ-1.5-R7DKR-ND; Supplier 4: Farnell; Supplier Part Number 4: 2094215; Supplier 5: Mouser; Supplier Part Number 5: 584-ADP1740ACPZ1.5R7; Packing: Reel; Mounting Technology: Surface Mount; Code_JEDEC: MO-220-VEED-2; ComponentLink1Description: Manufacturer URL; ComponentLink1URL: http://www.analog.com/en/index.html; ComponentLink2Description: Datasheet; ComponentLink2URL: http://www.analog.com/static/imported-files/data_sheets/ADP1740_1741.pdf; ComponentLink3Description: Package Specification; ComponentLink3URL: http://www.analog.com/static/imported-files/packages/PKG_PDF/LFCSP(CP)/CP_16_3.pdf; ComponentLink4Description: URL Link1; ComponentLink4URL: Product URL:http://www.analog.com/en/ADP1740/productSearch.html
footprint ADI-CP-16-3_N (QFN, 16-Leads, Body 3x3mm, Pitch 0.5mm, Thermal Pad 1.5x1.5mm, IPC Medium Density)
footprint ADI-CP-16-3_L (QFN, 16-Leads, Body 3x3mm, Pitch 0.5mm, Thermal Pad 1.5x1.5mm, IPC High Density)
footprint ADI-CP-16-3_M (QFN, 16-Leads, Body 3x3mm, Pitch 0.5mm, Thermal Pad 1.5x1.5mm, IPC Low Density)
pins: 1 VIN (power) "Regulator Input Supply. Bypass VIN to GND with a 4.7 uF or greater capacitor. Note that all five VIN pins must be connected to the source supply.", 2 VIN (power) "Regulator Input Supply. Bypass VIN to GND with a 4.7 uF or greater capacitor. Note that all five VIN pins must be connected to the source supply.", 3 VIN (power) "Regulator Input Supply. Bypass VIN to GND with a 4.7 uF or greater capacitor. Note that all five VIN pins must be connected to the source supply.", 4 EN (in) "Enable Input. Drive EN high to turn on the regulator; drive it low to turn off the regulator. For automatic startup, connect EN to VIN", 5 PG (oc) "Power-Good Output. This open-drain output requires an external pull-up resistor to VIN. If the part is in shutdown mode, current-limit mode, or thermal shutdown, or if it falls below 90% of the nominal output voltage, the PG (See Datasheet)", 6 GND (power) "Ground.", 7 SS (in) "Soft Start Pin. A capacitor connected to this pin determines the soft start time.", 8 NC "Not Connected. No internal connection.", 9 SENSE (in) "Sense Input. This pin measures the actual output voltage at the load and feeds it to the error amplifier. Connect the SENSE pin as close to the load as possible to minimize the effect of IR drop between the regulator output (See Datasheet)", 10 VOUT (power) "Regulated Output Voltage. Bypass VOUT to GND with a 4.7 uF or greater capacitor. Note that all five VOUT pins must be connected to the load", 11 VOUT (power) "Regulated Output Voltage. Bypass VOUT to GND with a 4.7 uF or greater capacitor. Note that all five VOUT pins must be connected to the load", 12 VOUT (power) "Regulated Output Voltage. Bypass VOUT to GND with a 4.7 uF or greater capacitor. Note that all five VOUT pins must be connected to the load", 13 VOUT (power) "Regulated Output Voltage. Bypass VOUT to GND with a 4.7 uF or greater capacitor. Note that all five VOUT pins must be connected to the load", 14 VOUT (power) "Regulated Output Voltage. Bypass VOUT to GND with a 4.7 uF or greater capacitor. Note that all five VOUT pins must be connected to the load", 15 VIN (power) "Regulator Input Supply. Bypass VIN to GND with a 4.7 uF or greater capacitor. Note that all five VIN pins must be connected to the source supply.", 16 VIN (power) "Regulator Input Supply. Bypass VIN to GND with a 4.7 uF or greater capacitor. Note that all five VIN pins must be connected to the source supply.", 17 EP (power) "The exposed pad on the bottom of the LFCSP enhances thermal performance and is electrically connected to GND inside the package. It is recommended that the exposed pad be connected to the ground plane on the board."

## ADP1740ACPZ-1.8-R7
designator U?
2 A, Low VIN, Low Dropout Linear Regulator, 1.6 to 3.6 V Vin, 1.8 V Vout, Industrial, 16-pin QFN (CP-16-3), Reel; Manufacturer: Analog Devices; PartNumber: ADP1740ACPZ-1.8-R7; Iout max: 2A; Preset Vout Values (V): 1.8; Supply Current IGND @ Small Load: 90uA; Vin (max) (V): 3.6; Vin (min) (V): 1.6; DatasheetVersion: Rev. D; PackageReference: CP-16-3; PackageDescription: 16-Pin Lead Frame Chip Scale Package, Body 3 x 3 mm, Pitch 0.5 mm; Supplier 1: Digi-Key; Supplier Part Number 1: ADP1740ACPZ-1.8-R7TR-ND; Supplier 2: Digi-Key; Supplier Part Number 2: ADP1740ACPZ-1.8-R7CT-ND; Supplier 3: Digi-Key; Supplier Part Number 3: ADP1740ACPZ-1.8-R7DKR-ND; Supplier 4: Farnell; Supplier Part Number 4: 2312887; Supplier 5: Newark; Supplier Part Number 5: 34P3048; Supplier 6: Newark; Supplier Part Number 6: 67W2700; Supplier 7: Mouser; Supplier Part Number 7: 584-ADP1740ACPZ1.8R7; Packing: Reel; Mounting Technology: Surface Mount; Code_JEDEC: MO-220-VEED-2; ComponentLink1Description: Manufacturer URL; ComponentLink1URL: http://www.analog.com/en/index.html; ComponentLink2Description: Datasheet; ComponentLink2URL: http://www.analog.com/static/imported-files/data_sheets/ADP1740_1741.pdf; ComponentLink3Description: Package Specification; ComponentLink3URL: http://www.analog.com/static/imported-files/packages/PKG_PDF/LFCSP(CP)/CP_16_3.pdf; ComponentLink4Description: URL Link1; ComponentLink4URL: Product URL:http://www.analog.com/en/ADP1740/productSearch.html
footprint ADI-CP-16-3_N (QFN, 16-Leads, Body 3x3mm, Pitch 0.5mm, Thermal Pad 1.5x1.5mm, IPC Medium Density)
footprint ADI-CP-16-3_L (QFN, 16-Leads, Body 3x3mm, Pitch 0.5mm, Thermal Pad 1.5x1.5mm, IPC High Density)
footprint ADI-CP-16-3_M (QFN, 16-Leads, Body 3x3mm, Pitch 0.5mm, Thermal Pad 1.5x1.5mm, IPC Low Density)
pins: 1 VIN (power) "Regulator Input Supply. Bypass VIN to GND with a 4.7 uF or greater capacitor. Note that all five VIN pins must be connected to the source supply.", 2 VIN (power) "Regulator Input Supply. Bypass VIN to GND with a 4.7 uF or greater capacitor. Note that all five VIN pins must be connected to the source supply.", 3 VIN (power) "Regulator Input Supply. Bypass VIN to GND with a 4.7 uF or greater capacitor. Note that all five VIN pins must be connected to the source supply.", 4 EN (in) "Enable Input. Drive EN high to turn on the regulator; drive it low to turn off the regulator. For automatic startup, connect EN to VIN", 5 PG (oc) "Power-Good Output. This open-drain output requires an external pull-up resistor to VIN. If the part is in shutdown mode, current-limit mode, or thermal shutdown, or if it falls below 90% of the nominal output voltage, the PG (See Datasheet)", 6 GND (power) "Ground.", 7 SS (in) "Soft Start Pin. A capacitor connected to this pin determines the soft start time.", 8 NC "Not Connected. No internal connection.", 9 SENSE (in) "Sense Input. This pin measures the actual output voltage at the load and feeds it to the error amplifier. Connect the SENSE pin as close to the load as possible to minimize the effect of IR drop between the regulator output (See Datasheet)", 10 VOUT (power) "Regulated Output Voltage. Bypass VOUT to GND with a 4.7 uF or greater capacitor. Note that all five VOUT pins must be connected to the load", 11 VOUT (power) "Regulated Output Voltage. Bypass VOUT to GND with a 4.7 uF or greater capacitor. Note that all five VOUT pins must be connected to the load", 12 VOUT (power) "Regulated Output Voltage. Bypass VOUT to GND with a 4.7 uF or greater capacitor. Note that all five VOUT pins must be connected to the load", 13 VOUT (power) "Regulated Output Voltage. Bypass VOUT to GND with a 4.7 uF or greater capacitor. Note that all five VOUT pins must be connected to the load", 14 VOUT (power) "Regulated Output Voltage. Bypass VOUT to GND with a 4.7 uF or greater capacitor. Note that all five VOUT pins must be connected to the load", 15 VIN (power) "Regulator Input Supply. Bypass VIN to GND with a 4.7 uF or greater capacitor. Note that all five VIN pins must be connected to the source supply.", 16 VIN (power) "Regulator Input Supply. Bypass VIN to GND with a 4.7 uF or greater capacitor. Note that all five VIN pins must be connected to the source supply.", 17 EP (power) "The exposed pad on the bottom of the LFCSP enhances thermal performance and is electrically connected to GND inside the package. It is recommended that the exposed pad be connected to the ground plane on the board."

## ADP1740ACPZ-2.5-R7
designator U?
2 A, Low VIN, Low Dropout Linear Regulator, 1.6 to 3.6 V Vin, 2.5 V Vout, Industrial, 16-pin QFN (CP-16-3), Reel; Manufacturer: Analog Devices; PartNumber: ADP1740ACPZ-2.5-R7; Iout max: 2A; Preset Vout Values (V): 2.5; Supply Current IGND @ Small Load: 90uA; Vin (max) (V): 3.6; Vin (min) (V): 1.6; DatasheetVersion: Rev. D; PackageReference: CP-16-3; PackageDescription: 16-Pin Lead Frame Chip Scale Package, Body 3 x 3 mm, Pitch 0.5 mm; Supplier 1: Digi-Key; Supplier Part Number 1: ADP1740ACPZ-2.5-R7TR-ND; Supplier 2: Digi-Key; Supplier Part Number 2: ADP1740ACPZ-2.5-R7CT-ND; Supplier 3: Digi-Key; Supplier Part Number 3: ADP1740ACPZ-2.5-R7DKR-ND; Supplier 4: Newark; Supplier Part Number 4: 34P3049; Supplier 5: Mouser; Supplier Part Number 5: 584-ADP1740ACPZ2.5R7; Packing: Reel; Mounting Technology: Surface Mount; Code_JEDEC: MO-220-VEED-2; ComponentLink1Description: Manufacturer URL; ComponentLink1URL: http://www.analog.com/en/index.html; ComponentLink2Description: Datasheet; ComponentLink2URL: http://www.analog.com/static/imported-files/data_sheets/ADP1740_1741.pdf; ComponentLink3Description: Package Specification; ComponentLink3URL: http://www.analog.com/static/imported-files/packages/PKG_PDF/LFCSP(CP)/CP_16_3.pdf; ComponentLink4Description: URL Link1; ComponentLink4URL: Product URL:http://www.analog.com/en/ADP1740/productSearch.html
footprint ADI-CP-16-3_N (QFN, 16-Leads, Body 3x3mm, Pitch 0.5mm, Thermal Pad 1.5x1.5mm, IPC Medium Density)
footprint ADI-CP-16-3_L (QFN, 16-Leads, Body 3x3mm, Pitch 0.5mm, Thermal Pad 1.5x1.5mm, IPC High Density)
footprint ADI-CP-16-3_M (QFN, 16-Leads, Body 3x3mm, Pitch 0.5mm, Thermal Pad 1.5x1.5mm, IPC Low Density)
pins: 1 VIN (power) "Regulator Input Supply. Bypass VIN to GND with a 4.7 uF or greater capacitor. Note that all five VIN pins must be connected to the source supply.", 2 VIN (power) "Regulator Input Supply. Bypass VIN to GND with a 4.7 uF or greater capacitor. Note that all five VIN pins must be connected to the source supply.", 3 VIN (power) "Regulator Input Supply. Bypass VIN to GND with a 4.7 uF or greater capacitor. Note that all five VIN pins must be connected to the source supply.", 4 EN (in) "Enable Input. Drive EN high to turn on the regulator; drive it low to turn off the regulator. For automatic startup, connect EN to VIN", 5 PG (oc) "Power-Good Output. This open-drain output requires an external pull-up resistor to VIN. If the part is in shutdown mode, current-limit mode, or thermal shutdown, or if it falls below 90% of the nominal output voltage, the PG (See Datasheet)", 6 GND (power) "Ground.", 7 SS (in) "Soft Start Pin. A capacitor connected to this pin determines the soft start time.", 8 NC "Not Connected. No internal connection.", 9 SENSE (in) "Sense Input. This pin measures the actual output voltage at the load and feeds it to the error amplifier. Connect the SENSE pin as close to the load as possible to minimize the effect of IR drop between the regulator output (See Datasheet)", 10 VOUT (power) "Regulated Output Voltage. Bypass VOUT to GND with a 4.7 uF or greater capacitor. Note that all five VOUT pins must be connected to the load", 11 VOUT (power) "Regulated Output Voltage. Bypass VOUT to GND with a 4.7 uF or greater capacitor. Note that all five VOUT pins must be connected to the load", 12 VOUT (power) "Regulated Output Voltage. Bypass VOUT to GND with a 4.7 uF or greater capacitor. Note that all five VOUT pins must be connected to the load", 13 VOUT (power) "Regulated Output Voltage. Bypass VOUT to GND with a 4.7 uF or greater capacitor. Note that all five VOUT pins must be connected to the load", 14 VOUT (power) "Regulated Output Voltage. Bypass VOUT to GND with a 4.7 uF or greater capacitor. Note that all five VOUT pins must be connected to the load", 15 VIN (power) "Regulator Input Supply. Bypass VIN to GND with a 4.7 uF or greater capacitor. Note that all five VIN pins must be connected to the source supply.", 16 VIN (power) "Regulator Input Supply. Bypass VIN to GND with a 4.7 uF or greater capacitor. Note that all five VIN pins must be connected to the source supply.", 17 EP (power) "The exposed pad on the bottom of the LFCSP enhances thermal performance and is electrically connected to GND inside the package. It is recommended that the exposed pad be connected to the ground plane on the board."